# EAGLE library part MAX1301 (library di_ic)
4-Channel, ±12V Multirange Inputs, Serial 16-Bit ADCs http://datasheets.maxim-ic.com/en/ds/MAX1300-MAX1301.pdf
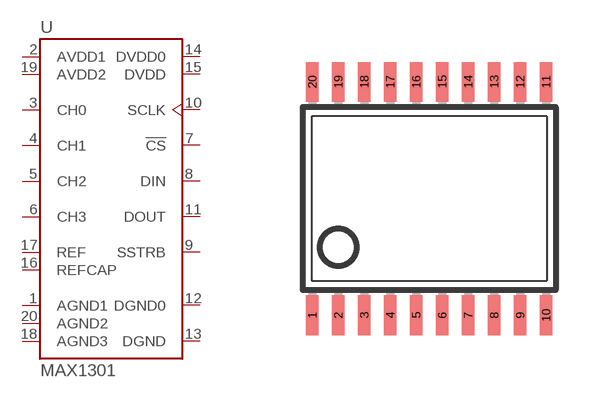
[diagram p25: symbol with the pads of TSSOP20; footprint TSSOP20]

Designator prefix -

## MAX1301  [TSSOP20]
1  AGND1  pwr
2  AVDD1  pwr
3  CH0  in
4  CH1  in
5  CH2  in
6  CH3  in
7  !CS  in
8  DIN  in
9  SSTRB  out
10  SCLK  in
11  DOUT  out
12  DGND0  pwr
13  DGND  pwr
14  DVDD0  pwr
15  DVDD  pwr
16  REFCAP  in
17  REF  in
18  AGND3  pwr
19  AVDD2  pwr
20  AGND2  pwr

## Footprint TSSOP20 (pad centres in mm)
Thin Shrink Small Outline Plastic 20 MAX3223-MAX3243.pdf
smd 0.305 x 0.991: 1 -2.925,-2.918; 2 -2.275,-2.918; 3 -1.625,-2.918; 4 -0.975,-2.918; 5 -0.325,-2.918; 6 0.325,-2.918; 7 0.975,-2.918; 8 1.625,-2.918; 9 2.275,-2.918; 10 2.925,-2.918; 11 2.925,2.918; 12 2.275,2.918; 13 1.625,2.918; 14 0.975,2.918; 15 0.325,2.918; 16 -0.325,2.918; 17 -0.975,2.918; 18 -1.625,2.918; 19 -2.275,2.918; 20 -2.925,2.918